# EAGLE library part AVR128DA64 (library ds_ic_mcu)
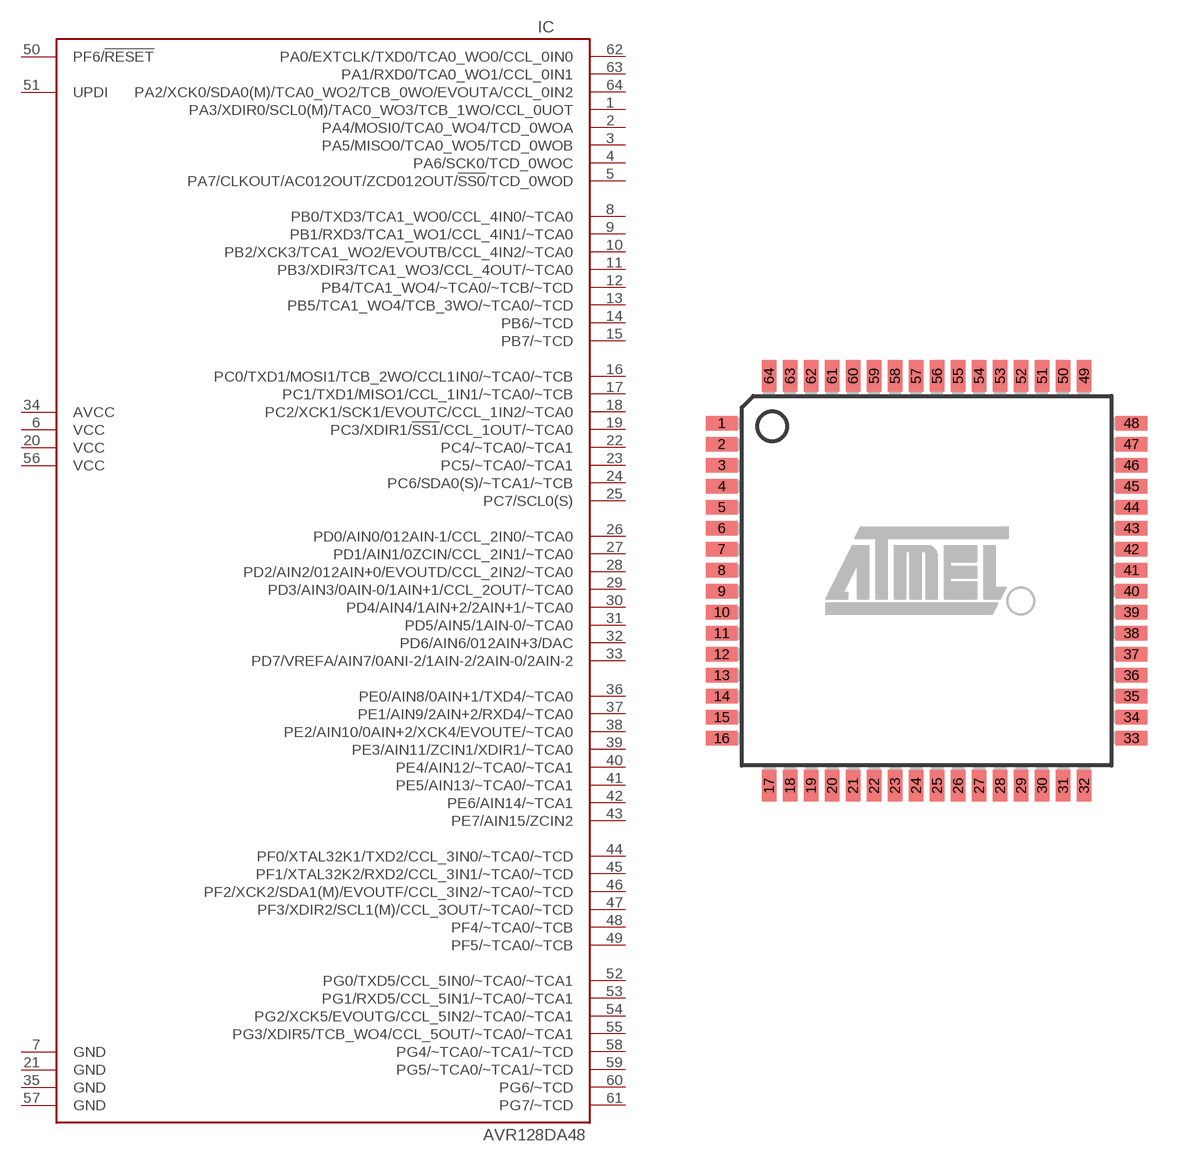
[diagram p8: symbol with the pads of TQFP64; footprint TQFP64]

Designator prefix IC

## AVR128DA64  [TQFP64]
1  PA3/XDIR0/SCL0(M)/TAC0_WO3/TCB_1WO/CCL_0UOT
2  PA4/MOSI0/TCA0_WO4/TCD_0WOA
3  PA5/MISO0/TCA0_WO5/TCD_0WOB
4  PA6/SCK0/TCD_0WOC
5  PA7/CLKOUT/AC012OUT/ZCD012OUT/!SS0!/TCD_0WOD
6  VCC  pwr
7  GND  pwr
8  PB0/TXD3/TCA1_WO0/CCL_4IN0/~TCA0
9  PB1/RXD3/TCA1_WO1/CCL_4IN1/~TCA0
10  PB2/XCK3/TCA1_WO2/EVOUTB/CCL_4IN2/~TCA0
11  PB3/XDIR3/TCA1_WO3/CCL_4OUT/~TCA0
12  PB4/TCA1_WO4/~TCA0/~TCB/~TCD
13  PB5/TCA1_WO4/TCB_3WO/~TCA0/~TCD
14  PB6/~TCD
15  PB7/~TCD
16  PC0/TXD1/MOSI1/TCB_2WO/CCL1IN0/~TCA0/~TCB
17  PC1/TXD1/MISO1/CCL_1IN1/~TCA0/~TCB
18  PC2/XCK1/SCK1/EVOUTC/CCL_1IN2/~TCA0
19  PC3/XDIR1/!SS1!/CCL_1OUT/~TCA0
20  VCC  pwr
21  GND  pwr
22  PC4/~TCA0/~TCA1
23  PC5/~TCA0/~TCA1
24  PC6/SDA0(S)/~TCA1/~TCB
25  PC7/SCL0(S)
26  PD0/AIN0/012AIN-1/CCL_2IN0/~TCA0
27  PD1/AIN1/0ZCIN/CCL_2IN1/~TCA0
28  PD2/AIN2/012AIN+0/EVOUTD/CCL_2IN2/~TCA0
29  PD3/AIN3/0AIN-0/1AIN+1/CCL_2OUT/~TCA0
30  PD4/AIN4/1AIN+2/2AIN+1/~TCA0
31  PD5/AIN5/1AIN-0/~TCA0
32  PD6/AIN6/012AIN+3/DAC
33  PD7/VREFA/AIN7/0ANI-2/1AIN-2/2AIN-0/2AIN-2
34  AVCC  pwr
35  GND  pwr
36  PE0/AIN8/0AIN+1/TXD4/~TCA0
37  PE1/AIN9/2AIN+2/RXD4/~TCA0
38  PE2/AIN10/0AIN+2/XCK4/EVOUTE/~TCA0
39  PE3/AIN11/ZCIN1/XDIR1/~TCA0
40  PE4/AIN12/~TCA0/~TCA1
41  PE5/AIN13/~TCA0/~TCA1
42  PE6/AIN14/~TCA1
43  PE7/AIN15/ZCIN2
44  PF0/XTAL32K1/TXD2/CCL_3IN0/~TCA0/~TCD
45  PF1/XTAL32K2/RXD2/CCL_3IN1/~TCA0/~TCD
46  PF2/XCK2/SDA1(M)/EVOUTF/CCL_3IN2/~TCA0/~TCD
47  PF3/XDIR2/SCL1(M)/CCL_3OUT/~TCA0/~TCD
48  PF4/~TCA0/~TCB
49  PF5/~TCA0/~TCB
50  PF6/!RESET
51  UPDI
52  PG0/TXD5/CCL_5IN0/~TCA0/~TCA1
53  PG1/RXD5/CCL_5IN1/~TCA0/~TCA1
54  PG2/XCK5/EVOUTG/CCL_5IN2/~TCA0/~TCA1
55  PG3/XDIR5/TCB_WO4/CCL_5OUT/~TCA0/~TCA1
56  VCC  pwr
57  GND  pwr
58  PG4/~TCA0/~TCA1/~TCD
59  PG5/~TCA0/~TCA1/~TCD
60  PG6/~TCD
61  PG7/~TCD
62  PA0/EXTCLK/TXD0/TCA0_WO0/CCL_0IN0
63  PA1/RXD0/TCA0_WO1/CCL_0IN1
64  PA2/XCK0/SDA0(M)/TCA0_WO2/TCB_0WO/EVOUTA/CCL_0IN2

## Footprint TQFP64 (pad centres in mm)
smd 1.194 x 0.559: 1 -7.8,6; 2 -7.8,5.2; 3 -7.8,4.4; 4 -7.8,3.6; 5 -7.8,2.8; 6 -7.8,2; 7 -7.8,1.2; 8 -7.8,0.4; 9 -7.8,-0.4; 10 -7.8,-1.2; 11 -7.8,-2; 12 -7.8,-2.8; 13 -7.8,-3.6; 14 -7.8,-4.4; 15 -7.8,-5.2; 16 -7.8,-6; 33 7.8,-6; 34 7.8,-5.2; 35 7.8,-4.4; 36 7.8,-3.6; 37 7.8,-2.8; 38 7.8,-2; 39 7.8,-1.2; 40 7.8,-0.4; 41 7.8,0.4; 42 7.8,1.2; 43 7.8,2; 44 7.8,2.8; 45 7.8,3.6; 46 7.8,4.4; 47 7.8,5.2; 48 7.8,6
smd 0.559 x 1.194: 17 -6,-7.8; 18 -5.2,-7.8; 19 -4.4,-7.8; 20 -3.6,-7.8; 21 -2.8,-7.8; 22 -2,-7.8; 23 -1.2,-7.8; 24 -0.4,-7.8; 25 0.4,-7.8; 26 1.2,-7.8; 27 2,-7.8; 28 2.8,-7.8; 29 3.6,-7.8; 30 4.4,-7.8; 31 5.2,-7.8; 32 6,-7.8; 49 6,7.8; 50 5.2,7.8; 51 4.4,7.8; 52 3.6,7.8; 53 2.8,7.8; 54 2,7.8; 55 1.2,7.8; 56 0.4,7.8; 57 -0.4,7.8; 58 -1.2,7.8; 59 -2,7.8; 60 -2.8,7.8; 61 -3.6,7.8; 62 -4.4,7.8; 63 -5.2,7.8; 64 -6,7.8